# Altium schematic symbol library BAT165AX.SchLib: 1 symbol
Pins are listed as number, name and electrical type; pins without a type are passive.

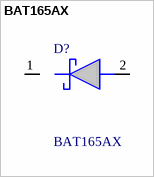
[diagram p0: symbol BAT165AX]

## BAT165AX
designator D?
40V, 0.75A medium power Schottky barrier rectifier; Manufacturer_Name: Nexperia; Geometry.Height: 1.1mm; Mouser Part Number: 771-BAT165AX; Mouser Price/Stock: https://www.mouser.co.uk/ProductDetail/Nexperia/BAT165AX?qs=1fQ7IOp4WriMQ9TlJoQ5jw%3D%3D; Manufacturer_Part_Number: BAT165AX; Datasheet Link: https://assets.nexperia.com/documents/data-sheet/BAT165A.pdf
footprint BAT165AX
pins: 1 K, 2 A